# Altium schematic symbol library Touch.SchLib: 1 symbol
Pins are listed as number, name and electrical type; pins without a type are passive.

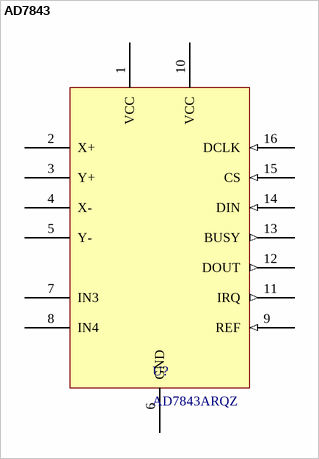
[diagram p0: symbol AD7843]

## AD7843
designator U?, comment AD7843ARQZ
ANALOG DEVICES - AD7843ARQZ - TOUCH SCREEN DIGITIZER 12BIT, SMD; Manufacturer: ANALOG DEVICES; Supplier: Farnell; Manufacturer Part Number: AD7843ARQZ; Supplier Part Number: 1226197
footprint SSOP16 (16-LEAD PLASTIC SSOP GN PACKAGE)
pins: 1 VCC (power), 2 X+, 3 Y+, 4 X-, 5 Y-, 6 GND (power), 7 IN3, 8 IN4, 9 REF (in), 10 VCC (power), 11 IRQ (out), 12 DOUT (out), 13 BUSY (out), 14 DIN (in), 15 CS (in), 16 DCLK (in)